# Altium footprint library PCB - DIODES - OSRAM BPW 34 S-Z.PcbLib: 1 footprints
Each footprint in its own frame and in the unit in brackets; x right, y up, seen from the top. Pads: shape width x height; smd on the part's side, far side on the other; paste and mask are expansions set on the pad; w line width, h text height; cw(c..) or ccw(c..) is an arc to the next point about the centre after c.
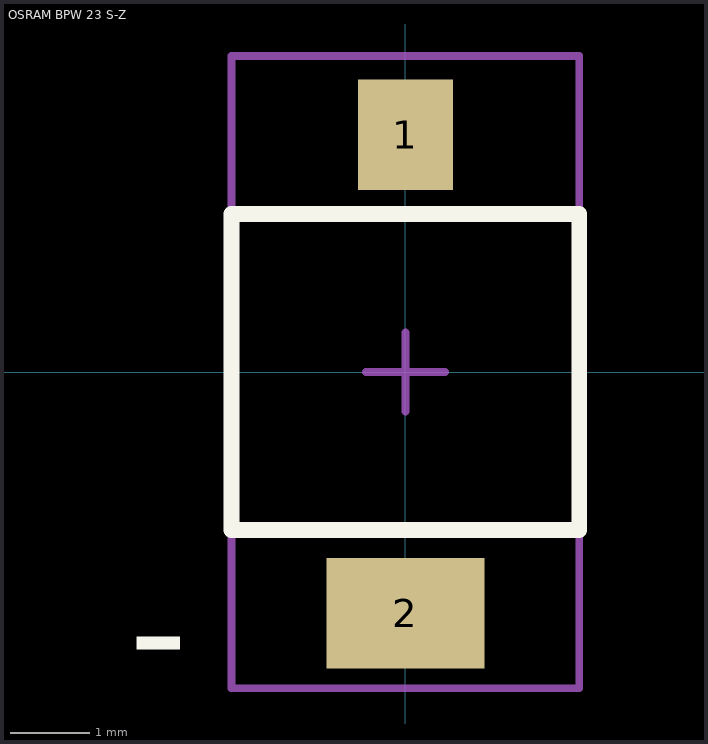
[diagram p0: the footprint, top view; thin cyan lines are the x and y axes]

## OSRAM BPW 23 S-Z [mm]
pads (2):
  rect 1.2x1.4 smd: 1(0,3)
  rect 2x1.4 smd: 2(0,-3.05)
Top Overlay:
  lines w0.2: -2.2,-2 2.2,-2 2.2,2 -2.2,2 -2.2,-2
  text "-" at -3.5,-4 h1.52
Mechanical 13:
  lines w0.1: -2.2,-2 -2.2,2 2.2,2 2.2,-2 -2.2,-2
Mechanical 15 (Mech15):
  lines w0.1: -0.5,0 0.5,0 ; 0,-0.5 0,0.5 ; -2.2,-4 2.2,-4 2.2,4 -2.2,4 -2.2,-4
3D body "OSRAM BPW 34 S-Z.step": height 1.2, standoff 0, extent -1.95,-3.25 1.95,3.25